# Altium footprint library BME280.PcbLib: 1 footprints
Each footprint in its own frame and in the unit in brackets; x right, y up, seen from the top. Pads: shape width x height; smd on the part's side, far side on the other; paste and mask are expansions set on the pad; w line width, h text height; cw(c..) or ccw(c..) is an arc to the next point about the centre after c.
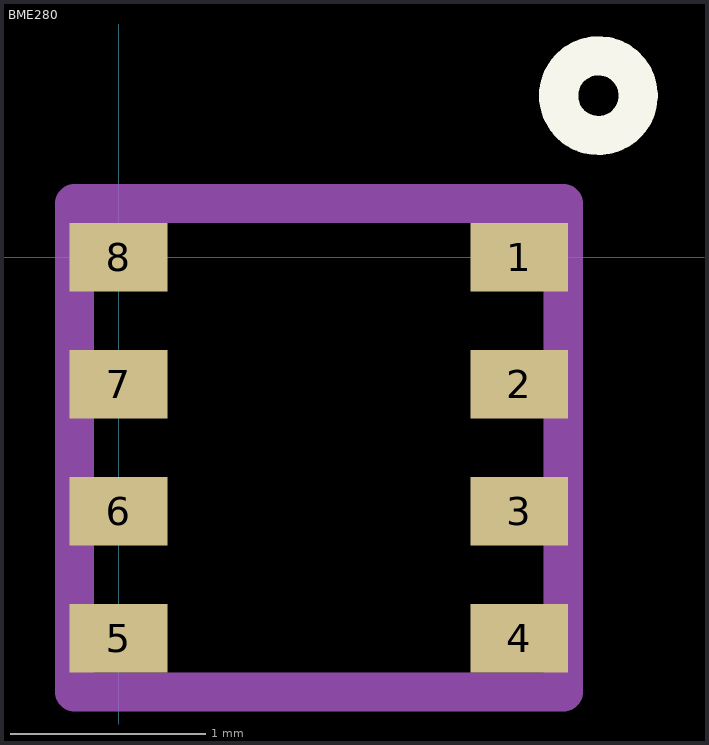
[diagram p0: the footprint, top view; thin cyan lines are the x and y axes]

## BME280 [mm]
pads (8):
  rect 0.5x0.35 smd: 1(2.05,0) 2(2.05,-0.65) 3(2.05,-1.3) 4(2.05,-1.95) 5(0,-1.95) 6(0,-1.3) 7(0,-0.65) 8(0,0)
Top Overlay:
  circle w0.2: c2.455,0.827 r0.204
Mechanical 15:
  lines w0.2: -0.225,-2.225 2.275,-2.225 2.275,0.275 -0.225,0.275 -0.225,-2.225